# EAGLE library part MOSFET-NCHAN-X2 (library hot-wand)
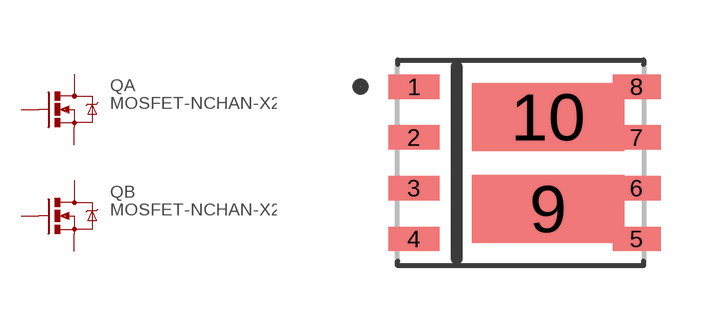
[diagram p4: symbol with the pads of POWERPAK-SO8-X2; footprint POWERPAK-SO8-X2]

Designator prefix Q; gates A=MOSFET-NCHANNEL B=MOSFET-NCHANNEL

## MOSFET-NCHAN-X2-PPSO8X2  [POWERPAK-SO8-X2]
1  A:S  pas
2  A:G  pas
3  B:S  pas
4  B:G  pas
5  B:D  pas
6  B:D  pas
7  A:D  pas
8  A:D  pas
9  B:D  pas
10  A:D  pas

## Footprint POWERPAK-SO8-X2 (pad centres in mm)
smd 1.27 x 0.61: 1 -2.67,1.905; 2 -2.67,0.635; 3 -2.67,-0.635; 4 -2.67,-1.905
smd 1.2 x 0.61: 5 2.9,-1.905; 6 2.9,-0.635; 7 2.9,0.635; 8 2.9,1.905
smd 3.81 x 1.7: 9 0.69,-1.15; 10 0.69,1.15